# EAGLE library part LCW-108-XX-X-S-RE (library con-samtec02)
Male Header - LCW Series
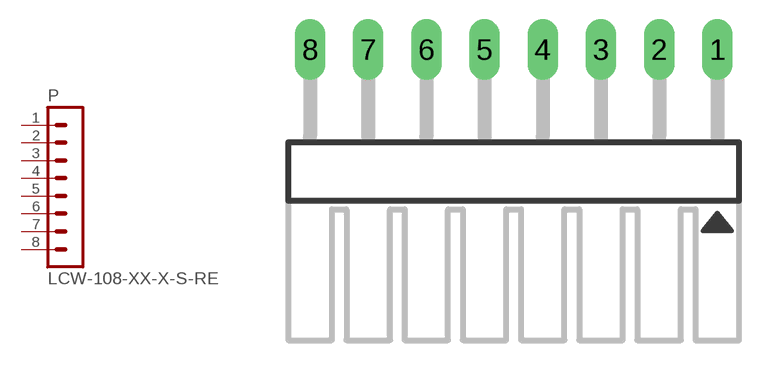
[diagram p10: symbol with the pads of LCW-108-XX-X-S-RE; footprint LCW-108-XX-X-S-RE]

Designator prefix P

## LCW-108-XX-X-S-RE  [LCW-108-XX-X-S-RE]
1  1  pas
2  2  pas
3  3  pas
4  4  pas
5  5  pas
6  6  pas
7  7  pas
8  8  pas

## Footprint LCW-108-XX-X-S-RE (pad centres in mm)
Samtec LCW Series right angle, friction lock strips, 0.025" square pins
drill 0.813 long: 1 8.89,0; 2 6.35,0; 3 3.81,0; 4 1.27,0; 5 -1.27,0; 6 -3.81,0; 7 -6.35,0; 8 -8.89,0